# Altium schematic symbol library 100068622_power_supplies.SchLib: 21 symbols
Pins are listed as number, name and electrical type; pins without a type are passive.

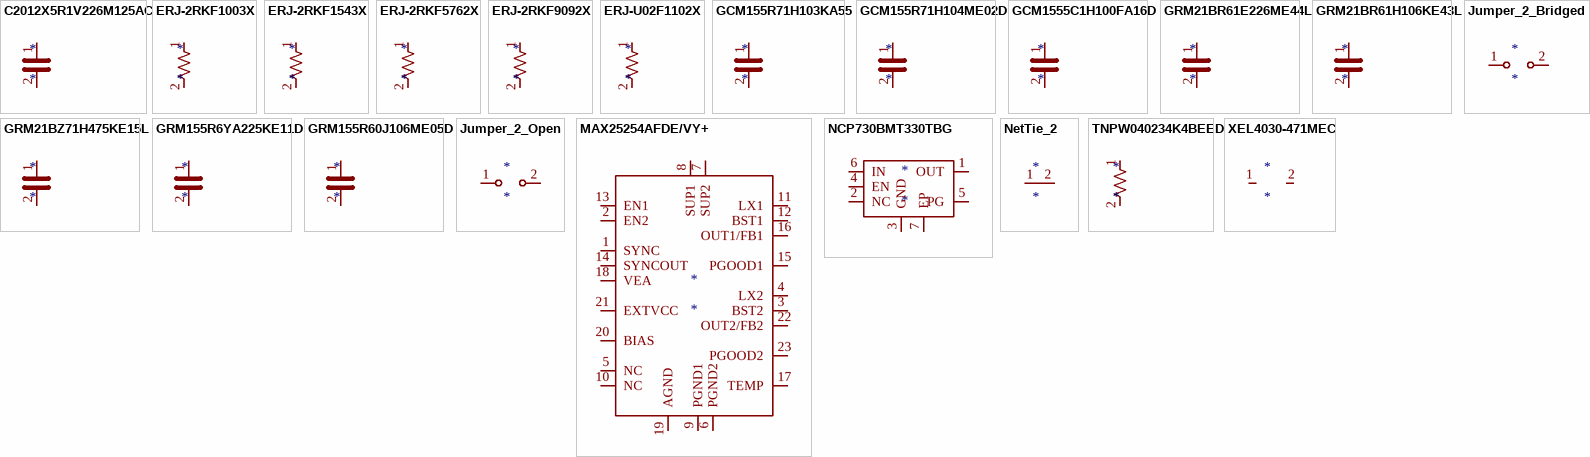
[diagram p0: symbols C2012X5R1V226M125AC to XEL4030-471MEC]

## C2012X5R1V226M125AC
designator *
pins: 1, 2

## ERJ-2RKF1003X
designator *
pins: 1, 2

## ERJ-2RKF1543X
designator *
pins: 1, 2

## ERJ-2RKF5762X
designator *
pins: 1, 2

## ERJ-2RKF9092X
designator *
pins: 1, 2

## ERJ-U02F1102X
designator *
pins: 1, 2

## GCM155R71H103KA55
designator *
pins: 1, 2

## GCM155R71H104ME02D
designator *
pins: 1, 2

## GCM1555C1H100FA16D
designator *
pins: 1, 2

## GRM21BR61E226ME44L
designator *
pins: 1, 2

## GRM21BR61H106KE43L
designator *
pins: 1, 2

## GRM21BZ71H475KE15L
designator *
pins: 1, 2

## GRM155R6YA225KE11D
designator *
pins: 1, 2

## GRM155R60J106ME05D
designator *
pins: 1, 2

## Jumper_2_Bridged
designator *
pins: 1 A, 2 B

## Jumper_2_Open
designator *
pins: 1 A, 2 B

## MAX25254AFDE/VY+
designator *
pins: 1 SYNC, 2 EN2, 3 BST2, 4 LX2, 5 NC, 6 PGND2, 7 SUP2, 8 SUP1, 9 PGND1, 10 NC, 11 LX1, 12 BST1, 13 EN1, 14 SYNCOUT, 15 PGOOD1, 16 OUT1/FB1, 17 TEMP, 18 VEA, 19 AGND, 20 BIAS, 21 EXTVCC, 22 OUT2/FB2, 23 PGOOD2

## NCP730BMT330TBG
designator *
pins: 1 OUT, 2 NC, 3 GND, 4 EN, 5 PG, 6 IN, 7 EP

## NetTie_2
designator *
pins: 1, 2

## TNPW040234K4BEED
designator *
pins: 1, 2

## XEL4030-471MEC
designator *
pins: 1, 2